# EAGLE library part IC-PCF85063ATL/1 (library nRF9160-IC)
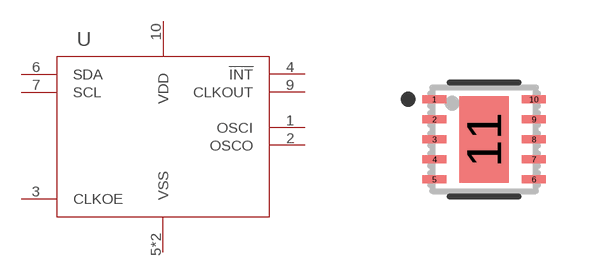
[diagram p4: symbol with the pads of DFN10_2P7X2P7-L; footprint DFN10_2P7X2P7-L]

Designator prefix U

## IC-PCF85063ATL/1 (DESC: IC RTC CLK/CALENDAR I2C 10-SON; DIGIKEYPN: 568-10235-1-ND; MF: NXP; MPN: PCF85063ATL/1,118; PROD_ID: IC-15415)  [DFN10_2P7X2P7-L]
1  OSCI  in
2  OSCO  out
3  CLKOE  in
4  !INT  out
5  VSS  pwr
6  SDA
7  SCL  in
9  CLKOUT  out
10  VDD  pwr
11  VSS  pwr

## Footprint DFN10_2P7X2P7-L (pad centres in mm)
smd 0.61 x 0.203: 1 -1.245,1; 2 -1.245,0.5; 3 -1.245,0; 4 -1.245,-0.5; 5 -1.245,-1; 6 1.245,-1; 7 1.245,-0.5; 8 1.245,0; 9 1.245,0.5; 10 1.245,1
smd 1.245 x 2.159: 11 0,0